# Altium footprint library EEPROM_25f256.PcbLib: 1 footprints
Each footprint in its own frame and in the unit in brackets; x right, y up, seen from the top. Pads: shape width x height; smd on the part's side, far side on the other; paste and mask are expansions set on the pad; w line width, h text height; cw(c..) or ccw(c..) is an arc to the next point about the centre after c.
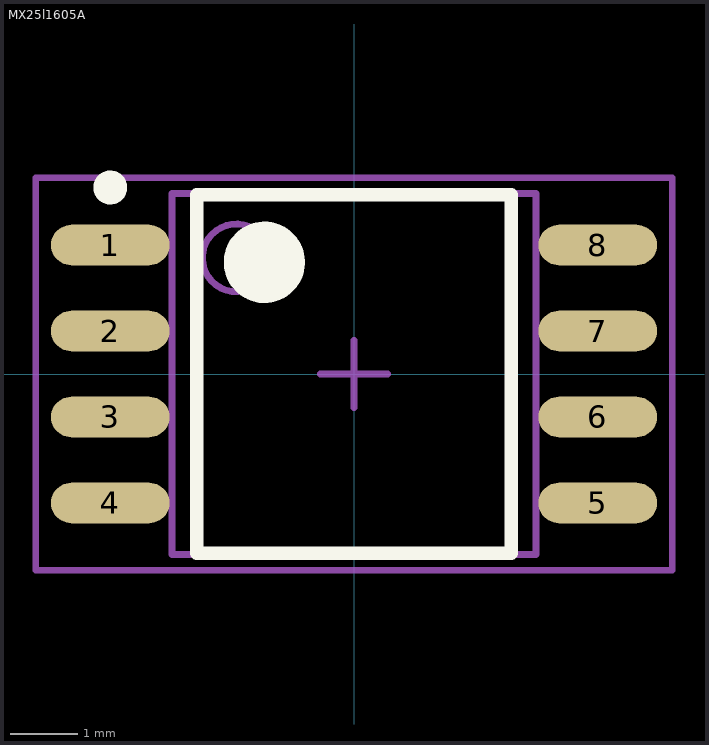
[diagram p0: the footprint, top view; thin cyan lines are the x and y axes]

## MX25l1605A [mm] "SOP, 8-Leads, Body 5.3x5.4mm (max), Pitch 1.27mm, IPC Medium Density"
height 2.16
pads (8):
  oval 1.75x0.6 smd: 1(-3.6,1.905) 2(-3.6,0.635) 3(-3.6,-0.635) 4(-3.6,-1.905) 5(3.6,-1.905) 6(3.6,-0.635) 7(3.6,0.635) 8(3.6,1.905)
Top Overlay:
  circle w0.6: c-1.325,1.65 r0.3
  circle w0.25: c-3.6,2.755 r0.125
  lines w0.2: -2.325,-2.65 2.325,-2.65 2.325,2.65 -2.325,2.65 -2.325,-2.65
Mechanical 13:
  circle w0.1: c-1.74,1.715 r0.5
  lines w0.1: -2.69,-2.665 2.69,-2.665 2.69,2.665 -2.69,2.665 -2.69,-2.665
Mechanical 15:
  lines w0.1: -0.5,0 0.5,0 ; 0,-0.5 0,0.5 ; -4.7,-2.9 4.7,-2.9 4.7,2.9 -4.7,2.9 -4.7,-2.9
3D body: height 2.16, standoff 0.05, extent -2.69,-2.665 2.69,2.665